# Altium schematic symbol library DELA EPROMMER II.SCHLIB: 21 symbols
Pins are listed as number, name and electrical type; pins without a type are passive.

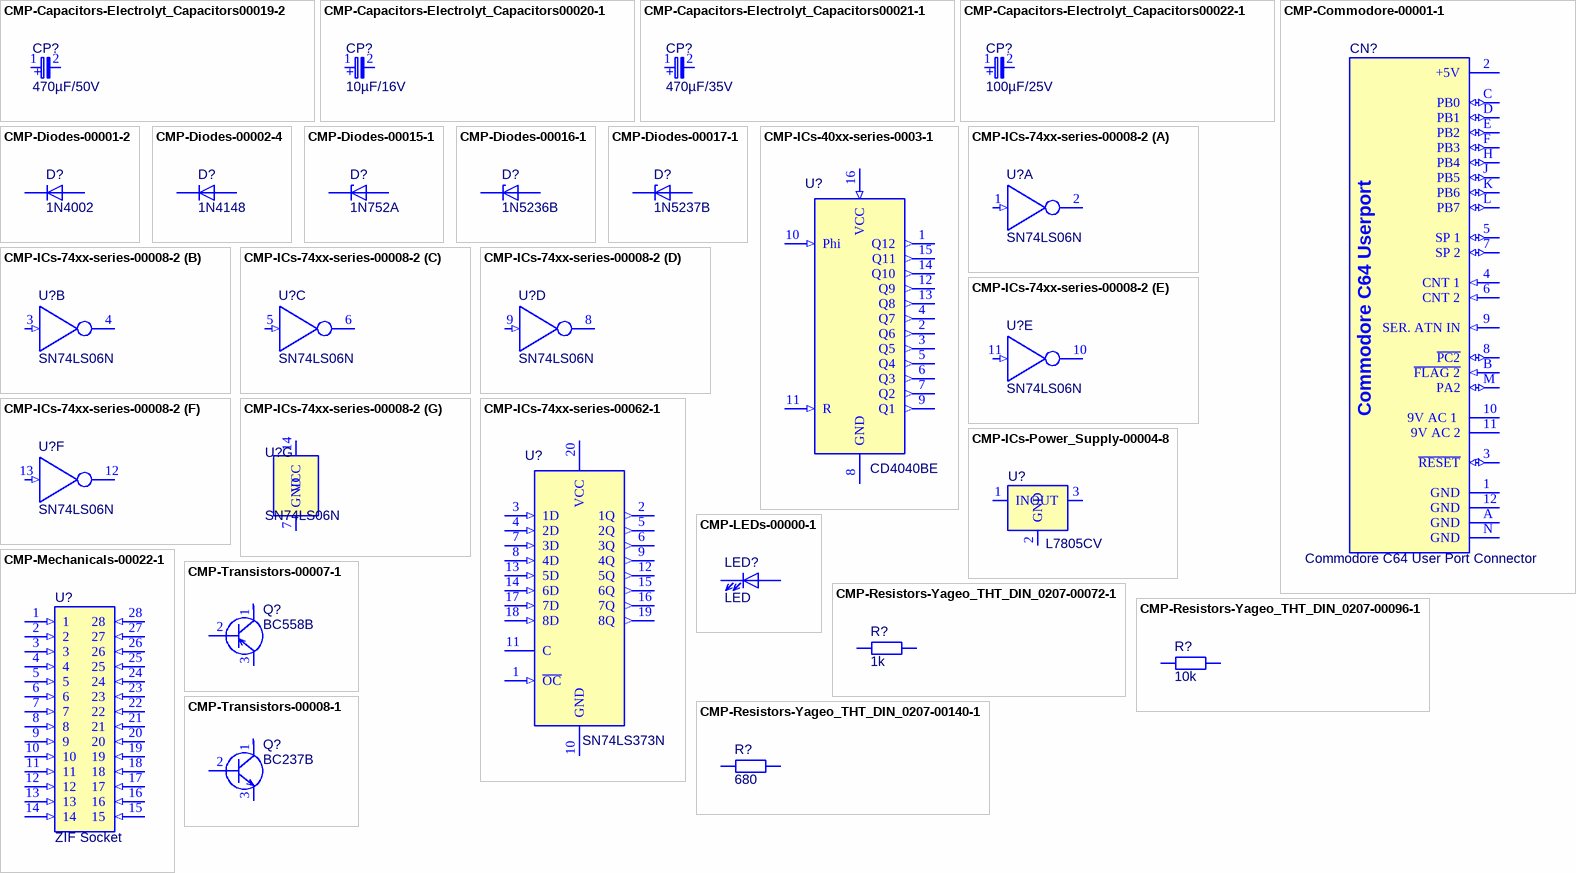
[diagram p0: symbols CMP-Capacitors-Electrolyt_Capacitors00019-2 to CMP-Transistors-00008-1]

## CMP-Capacitors-Electrolyt_Capacitors00019-2
designator CP?, comment 470µF/50V
Capacitor 470 uF 50 VDC, ECA1HHG471, Panasonic Automotive & Industrial Systems; Manufacturer Part Number: ECA-1HHG471; Lead/Base Style: Straight; Voltage: 50V; Dissipation Factor: 0.12%; Capacitance: 470uF; Ripple Current: 530mA; Lead Diameter: 0.6mm; Tolerance: 20%; Life (Hours): 2000Hour; Leakage Current: 3uA; Height - Seated (Max): 0.866inch; Number of Pins: 2; Package Quantity: 200; Voltage Rating (DC): 50V; Radiation Hardening: No; Max Operating Temperature: 105°C; Ripple Current (AC): 530mA; Lead Pitch: 5mm; Diameter: 10mm; REACH SVHC: No SVHC; Termination: Radial; Mount: Through Hole,PCB; Case/Package: Radial; Contact Plating: Tin; Length: 20mm; Min Operating Temperature: -55°C; Height: 20mm; Packaging: Bulk; Voltage Rating: 50V; Manufacturer: Panasonic; Component Type: Electrolyt Capacitors
footprint CAP Elec. 470µF 50V Panasonic ECA1HHG471 (Elko, radial, 470 µF, 50 V, RM 5,0, 1000h, 105°C, 20%)
pins: 1, 2
text: +

## CMP-Capacitors-Electrolyt_Capacitors00020-1
designator CP?, comment 10µF/16V
RND 150EHR100M16B - Kondensator, 10µF, 16V, 20%, RND Components; Manufacturer: RND Components; Manufacturer Part Number: RND 150EHR100M16B; Component Type: Electrolyt Capacitors
footprint CAP Elec 10µF 16V RND 150EHR100M16B (Elko, radial, 10 µF, 16 V, RM 2,0, 105°C, 2000h, 20%)
pins: 1, 2
text: +

## CMP-Capacitors-Electrolyt_Capacitors00021-1
designator CP?, comment 470µF/35V
ALUMINUM ELECTROLYTIC CAPACITOR, 470UF, 35V, 20%, RADIAL; Product Range:NHG Series; Capacitance:470 F; Capacitance Tolerance: 20%; Voltage Rating:35V; Diameter:10mm; Capacitor Terminals:Radial Leaded; Packaging:Each; ESR:- ;RoHS Compliant: Yes; Manufacturer: Panasonic; Manufacturer Part Number: ECA-1VHG471; Polarity: Polar; Leakage Current: 3uA; Ripple Current: 460mA; Dielectric Material: Aluminium; Life (Hours): 2000Hour; Lead/Base Style: Straight; Dissipation Factor: 0.14%; Lead Diameter: 0.6mm; Height: 16mm; Lead Free: Lead Free; Max Operating Temperature: 105°C; Voltage Rating (DC): 35V; Termination: Radial; Tolerance: 20%; Voltage: 35V; Voltage Rating: 35V; Case/Package: Radial; Length: 16mm; Contact Plating: Tin; Capacitance: 470uF; Min Operating Temperature: -55°C; REACH SVHC: No SVHC; Package Quantity: 200; Height - Seated (Max): 0.669inch; Number of Pins: 2; Diameter: 10mm; Lead Pitch: 5mm; Mount: Through Hole,PCB; Packaging: Bulk; Radiation Hardening: No; Component Type: Electrolyt Capacitors
footprint CAP Elec 470µF 35V Panasonic ECA1VHG471 (Elko, radial, 470 µF, 50 V, RM 5,0, 1000h, 105°C, 20%)
pins: 1, 2
text: +

## CMP-Capacitors-Electrolyt_Capacitors00022-1
designator CP?, comment 100µF/25V
Capacitor 100 uF 25 VDC, ECA1EHG101, Panasonic Automotive & Industrial Systems; Polarity: Polar; Voltage Rating (DC): 25V; Lead Diameter: 0.5mm; Dissipation Factor: 0.16%; Capacitance: 100uF; Ripple Current (AC): 130mA; Tolerance: 20%; Lead/Base Style: Straight; Life (Hours): 1000Hour; Leakage Current: 3uA; Height - Seated (Max): 0.48inch; Packaging: Bulk; Termination: Radial; Voltage Rating: 25V; Number of Pins: 2; Length: 11.2mm; Height: 11.2mm; Min Operating Temperature: -55°C; Diameter: 6.3mm; Lead Pitch: 2.5mm; Width: 0inch; Max Operating Temperature: 105°C; Case/Package: Radial; Mount: Through Hole,PCB; REACH SVHC: No SVHC; Package Quantity: 200; Voltage: 25V; Radiation Hardening: No; Ripple Current: 130mA; Manufacturer: Panasonic; Manufacturer Part Number: ECA1EHG101; Component Type: Electrolyt Capacitors
footprint CAP Elec 100µF 25V Panasonic ECA1EHG101 (Elko, radial, 100 µF, 25 V, RM 2,5, 1000h, 105°C, 20%)
pins: 1, 2
text: +

## CMP-Commodore-00001-1
designator CN?, comment Commodore C64 User Port Connector
Connector for soldering on the board, for connection to the user port of the C64.; Component Type: Commodore
footprint C64 User Port Connector
pins: 1 GND, 2 +5V (power), 3 ~{RESET} (io), 4 CNT 1 (in), 5 SP 1 (io), 6 CNT 2 (in), 7 SP 2 (io), 8 ~{PC2} (io), 9 SER. ATN IN (in), 10 9V AC 1  (power), 11 9V AC 2 (power), 12 GND, A GND, B ~{FLAG 2} (in), C PB0 (io), D PB1 (io), E PB2 (io), F PB3 (io), H PB4 (io), J PB5 (io), K PB6 (io), L PB7 (io), M PA2 (io), N GND
text: Commodore C64 Userport

## CMP-Diodes-00001-2
designator D?, comment 1N4002
DIODE GEN PURP 100V 1A DO41; Manufacturer: ON Semiconductor / Fairchild; Capacitance: 15pF; Forward Voltage: 1.1V; Polarity: Standard; Peak Reverse Current: 5uA; Max Forward Surge Current (Ifsm): 30A; Element Configuration: Single; Power Dissipation: 3W; Forward Current: 1A; Reverse Voltage: 100V; Mount: Through Hole; Diameter: 2.72mm; Height: 2.72mm; Max Operating Temperature: 175°C; Number of Pins: 2; Voltage Rating (DC): 100V; Contact Plating: Tin,Matte; Peak Non-Repetitive Surge Current: 30A; Width: 2.72mm; Package Quantity: 1000; Average Rectified Current: 1A; Max Repetitive Reverse Voltage (Vrrm): 100V; Max Surge Current: 30A; Weight: 0.245g; Min Operating Temperature: -55°C; Packaging: Tape and Reel; REACH SVHC: No SVHC; Termination: Axial; Radiation Hardening: No; Output Current: 1A; Current Rating: 1A; Length: 5.2mm; Lead Free: Lead Free; Max Reverse Voltage (DC): 100V; Manufacturer Part Number: 1N4002; Component Type: Diodes
footprint 1N4002 P=7.62mm
pins: 1, 2

## CMP-Diodes-00002-4
designator D?, comment 1N4148
NEXPERIA - 1N4148 - DIODE, 1N4148 AMMO-BOX 10K; Manufacturer: NXP Semiconductors; Reverse Recovery Time: 4ns; Capacitance: 4pF; Element Configuration: Single; Current: 4A; Output Current: 200mA; Voltage Rating (DC): 100V; Max Power Dissipation: 500mW; Polarity: Standard; Forward Voltage: 1V; Weight: 0.01lb; Lead Free: Lead Free; Length: 2.5inch; Termination: Axial; Voltage: 100V; Forward Current: 200mA; Width: 0.25inch; Packaging: Ammo Pack; Max Repetitive Reverse Voltage (Vrrm): 100V; Max Operating Temperature: 200°C; Number of Pins: 2; Case/Package: SOD; Max Forward Surge Current (Ifsm): 4A; Height: 0.25inch; Peak Non-Repetitive Surge Current: 4A; Radiation Hardening: No; REACH SVHC: No SVHC; Current Rating: 200mA; Min Operating Temperature: -65°C; Manufacturer Part Number: 1N4148; Component Type: Diodes
footprint 1N4148 P=5.08mm
pins: 1, 2

## CMP-Diodes-00015-1
designator D?, comment 1N752A
Zener Diode 5.6V 1/2 Watt 5% Do-35 Case; Manufacturer: NTE Electronics; Max Power Dissipation: 500mW; REACH SVHC: Unknown; Zener Voltage: 5.6V; Max Operating Temperature: 200°C; Number of Pins: 2; Manufacturer Part Number: 1N752A; Component Type: Diodes
footprint 1N752A P=5.08mm
pins: 1, 2

## CMP-Diodes-00016-1
designator D?, comment 1N5236B
FAIRCHILD SEMICONDUCTOR         1N5236B             Zener Single Diode, 7.5 V, 500 mW, DO-35, 5 %, 2 Pins, 200 C; Manufacturer: ON Semiconductor / Fairchild; Max Power Dissipation: 500mW; Peak Reverse Current: 3uA; Zener Voltage: 7.5V; Impedance: 6R; Test Current: 20mA; Voltage Tolerance: 5%; Forward Voltage: 1.2V; Mount: Through Hole; Voltage Rating (DC): 7.5V; Min Operating Temperature: -65°C; Weight: 0.01lb; Power Dissipation: 500mW; Width: 1.91mm; Element Configuration: Single; Lead Free: Lead Free; Zener Current: 20mA; Packaging: Bulk; Max Reverse Leakage Current: 3uA; Working Voltage: 7.5V; REACH SVHC: No SVHC; Power Rating: 500mW; Package Quantity: 1000; Tolerance: 5%; Number of Pins: 2; Height: 1.91mm; Radiation Hardening: No; Max Operating Temperature: 200°C; Length: 4.56mm; Manufacturer Part Number: 1N5236B; Component Type: Diodes
footprint 1N5236B  P=5.08mm
pins: 1, 2

## CMP-Diodes-00017-1
designator D?, comment 1N5237B
ZENER DIODE, 500mW, 8.2V, DO-35; Zener Voltage Vz Typ:8.2V; Power Dissipation Pd:500mW; Diode Case Style:DO-35; Zener Tolerance :5%; No. of Pins:2Pins; Operating Temperature Max:200 C; Packaging:Each; Breakdown Voltage:8.2V ;RoHS Compliant: Yes; Manufacturer: ON Semiconductor / Fairchild; Zener Current: 20mA; Voltage Tolerance: 5%; Peak Reverse Current: 3uA; Element Configuration: Single; Impedance: 8R; Forward Voltage: 1.2V; Height: 0.5inch; Lead Free: Lead Free; Max Operating Temperature: 200°C; Weight: 80g; Width: 0.5inch; Max Power Dissipation: 500mW; Packaging: Bulk; Tolerance: 5%; Package Quantity: 1000; Power Rating: 500mW; REACH SVHC: No SVHC; Working Voltage: 8.2V; Power Dissipation: 500mW; Min Operating Temperature: -65°C; Mount: Through Hole; Test Current: 20mA; Radiation Hardening: No; Max Reverse Leakage Current: 3uA; Voltage Rating (DC): 8.2V; Number of Pins: 2; Breakdown Voltage: 8.2V; Length: 0.5inch; Zener Voltage: 8.2V; Manufacturer Part Number: 1N5237B; Component Type: Diodes
footprint 1N5237B  P=5.08mm
pins: 1, 2

## CMP-ICs-40xx-series-0003-1
designator U?, comment CD4040BE
Counter/Divider Single 12-Bit Binary UP 16-Pin PDIP Tube; Manufacturer: Texas Instruments; Propagation Delay: 360ns; Input Capacitance: 5pF; Max Supply Voltage: 18V; Power Dissipation: 500mW; Number of Bits per Element: 12; Frequency: 24MHz; Min Supply Voltage: 3V; Clock Edge Trigger Type: Negative Edge; Number of Elements: 1; Quiescent Current: 100uA; Direction: Unidirectional; Reset: Asynchronous; Width: 6.35mm; Turn-On Delay Time: 360ns; Max Operating Temperature: 125°C; Weight: 0.03357oz; Packaging: Rail/Tube; REACH SVHC: No SVHC; Contact Plating: Gold; Mount: Through Hole; Radiation Hardening: No; Logic Function: Counter; Lead Free: Lead Free; Package Quantity: 25; Number of Pins: 16; Length: 19.3mm; Min Operating Temperature: -55°C; Height: 4.57mm; Case/Package: PDIP; Number of Bits: 12; Manufacturer Part Number: CD4040BE; Component Type: 4000-series
footprint CD4040BE with Socket (CMOS 12-Stage Ripple-Carry Binary Counter/Divider)
footprint CD4040BE (CMOS 12-Stage Ripple-Carry Binary Counter/Divider)
pins: 1 Q12 (out), 2 Q6 (out), 3 Q5 (out), 4 Q7 (out), 5 Q4 (out), 6 Q3 (out), 7 Q2 (out), 8 GND (power), 9 Q1 (out), 10 Phi (in), 11 R (in), 12 Q9 (out), 13 Q8 (out), 14 Q10 (out), 15 Q11 (out), 16 VCC (in)

## CMP-ICs-74xx-series-00008-2
designator U?, comment SN74LS06N
IC INVERTER OPEN COL 6CH 14DIP; Manufacturer: Texas Instruments; Turn-On Delay Time: 20ns; Operating Supply Voltage: 5V; Schmitt Trigger Input: No; Number of Circuits: 6; Number of Inputs: 1; Low Level Output Current: 40mA; Polarity: Inverting; High Level Output Current: -250uA; Max Supply Voltage: 5.25V; Logic Function: Buffer,Inverter,Inverting; Min Supply Voltage: 4.75V; Nominal Supply Current: 100uA; Max Operating Temperature: 70°C; Height: 4.57mm; Radiation Hardening: No; Mount: Through Hole; Number of Pins: 14; Min Operating Temperature: 0°C; Termination: Through Hole; Case/Package: PDIP; Number of Outputs: 6; Lead Free: Lead Free; Number of Elements: 6; Packaging: Rail/Tube; Number of Output Lines: 6; REACH SVHC: No SVHC; Length: 19.3mm; Number of Channels: 6; Propagation Delay: 20ns; Number of Gates: 6; Number of Bits: 6; Number of Input Lines: 6; Width: 6.35mm; Package Quantity: 25; Manufacturer Part Number: SN74LS06N; Component Type: 74xx-series
footprint SN74LS06N with Socket
footprint SN74LS06N
part A pins: 1 1A (in), 2 1Y (oc)
part B pins: 3 2A (in), 4 2Y (oc)
part C pins: 5 3A (in), 6 3Y (oc)
part D pins: 8 4Y (oc), 9 4A (in)
part E pins: 10 5Y (oc), 11 5A (in)
part F pins: 12 6Y (oc), 13 6A (in)
part G pins: 7 GND, 14 VCC (power)

## CMP-ICs-74xx-series-00062-1
designator U?, comment SN74LS373N
Latch Transparent 3-ST 8-CH D-Type 20-Pin PDIP Tube; Manufacturer: Texas Instruments; Max Supply Voltage: 5.25V; Number of Circuits: 8; Logic Function: D-Type,Latch,Flip-Flop; Low Level Output Current: 24mA; Number of Output Lines: 1; Propagation Delay: 18ns; Number of Input Lines: 3; Operating Supply Current: 40mA; Min Supply Voltage: 4.75V; Polarity: Non-Inverting; Operating Supply Voltage: 5V; Turn-On Delay Time: 12ns; High Level Output Current: -2.6mA; Weight: 0.042297oz; Number of Bits: 8; Max Operating Temperature: 70°C; Package Quantity: 20; Number of Outputs: 8; Case/Package: PDIP; Quiescent Current: 24mA; Min Operating Temperature: 0°C; Width: 6.35mm; Contact Plating: Gold; Lead Free: Lead Free; Number of Elements: 1; Mount: Through Hole; Number of Channels: 8; Height: 4.57mm; REACH SVHC: No SVHC; Number of Pins: 20; Packaging: Rail/Tube; Output Current: 24mA; Radiation Hardening: No; Independent Circuits: 1; Length: 24.33mm; Manufacturer Part Number: SN74LS373N; Component Type: 74xx-series
footprint SN74LS373N with Socket (OCTAL D-TYPE TRANSPARENT LATCHES AND EDGE-TRIGGERED FLIP-FLOPS)
footprint SN74LS373N (OCTAL D-TYPE TRANSPARENT LATCHES AND EDGE-TRIGGERED FLIP-FLOPS)
pins: 1 ~{OC} (in), 2 1Q (out), 3 1D (in), 4 2D (in), 5 2Q (out), 6 3Q (out), 7 3D (in), 8 4D (in), 9 4Q (out), 10 GND (power), 11 C, 12 5Q (out), 13 5D (in), 14 6D (in), 15 6Q (out), 16 7Q (out), 17 7D (in), 18 8D (in), 19 8Q (out), 20 VCC (power)

## CMP-ICs-Power_Supply-00004-8
designator U?, comment L7805CV
STMICROELECTRONICS - L7806CV - LINEAR VOLTAGE REGULATOR 6V TO-220-3; Dropout Voltage: 2V; Quiescent Current: 8mA; Max Input Voltage: 35V; Power Supply Rejection Ratio (PSRR): 59dB; Number of Outputs: 1; Min Input Voltage: 8V; Tolerance: 5%; Output Current: 1.5A; Output Type: Fixed; Polarity: Positive; Lead Free: Lead Free; Min Operating Temperature: 0°C; Nominal Output Voltage: 6V; Min Output Voltage: 6V; Length: 10.4mm; Number of Pins: 3; Output Voltage: 6V; Mount: Through Hole; Height: 9.15mm; Width: 4.6mm; Package Quantity: 50; Contact Plating: Tin,Matte; Radiation Hardening: No; Case/Package: TO; Max Operating Temperature: 125°C; REACH SVHC: No SVHC; Max Output Current: 1.5A; Packaging: Rail/Tube; Number of Regulators: 1; Weight: 0.08113oz; Manufacturer: STMicroelectronics; Manufacturer Part Number: L7806CV; Component Type: Power Supplies
footprint L 7805 CV (Linear Voltage Regulator IC  1 Output  1.5A TO-220AB)
footprint L 7805 CV Right Angle (Linear Voltage Regulator IC  1 Output  1.5A TO-220AB)
pins: 1 IN (power), 2 GND, 3 OUT (power), 4 N/C (power) hidden

## CMP-LEDs-00000-1
designator LED?, comment LED
WURTH ELEKTRONIK   151033RS03000   LED, 3MM,  RED, 2600MCD, 621NM; Manufacturer: Wurth Electronics; Viewing Angle: 30°; Test Current: 20mA; Forward Current: 30mA; Lens Style: Clear,Circular,Round; Forward Voltage: 2V; Packaging: Bulk; Height: 5.55mm; Color: Red; Wavelength: 621nm; Max Operating Temperature: 85°C; Luminous Intensity: 2600mcd; Dominant Wavelength: 621nm; REACH SVHC: Unknown; Mount: Through Hole; Lens Size: 3mm; Package Quantity: 1; Case/Package: Radial; Min Operating Temperature: -40°C; Manufacturer Part Number: 151033RS03000; Component Type: LEDs
footprint LED 3mm Red Straight
pins: 1, 2

## CMP-Mechanicals-00022-1
designator U?, comment ZIF Socket
CONN IC DIP SOCKET ZIF 28POS GLD; Manufacturer: 3M; Manufacturer Part Number: 228-4817-00-0602J; Row Spacing: 0.4inch; Number of Positions: 28; Gender: Female; Pitch: 2.54mm; Voltage Rating: 1kV; Current Rating: 1A; Body Material: Glass,Polysulfone; Termination: Through Hole; Depth: 11.9mm; Contact Material: Copper; Package Quantity: 10; Mount: Through Hole; Flammability Rating: UL94 V-0; Number of Contacts: 28; Housing Material: Polysulfone; Max Operating Temperature: 150°C; Packaging: Rail/Tube; Min Operating Temperature: -55°C; Lead Free: Lead Free; Width: 17.8mm; Length: 50.5mm; Contact Plating: Gold; Orientation: Straight; Component Type: Mechanicals
footprint ZIF Socket Textool 28pos P=15.24mm
pins: 1 (in), 2 (in), 3 (in), 4 (in), 5 (in), 6 (in), 7 (in), 8 (in), 9 (in), 10 (in), 11 (in), 12 (in), 13 (in), 14 (in), 15 (in), 16 (in), 17 (in), 18 (in), 19 (in), 20 (in), 21 (in), 22 (in), 23 (in), 24 (in), 25 (in), 26 (in), 27 (in), 28 (in)

## CMP-Resistors-Yageo_THT_DIN_0207-00072-1
designator R?, comment 1k
RES 1K OHM 1/4W 5% AXIAL; Manufacturer: Yageo; Manufacturer Part Number: CFR-25JB-52-1K; Max Power Dissipation: 250mW; Resistance: 1kR; Temperature Coefficient: 500ppm/°C; Composition: Carbon Film; Lead Free: Lead Free; Case/Package: Axial; Packaging: Bulk; Length: 0.248inch; Min Operating Temperature: -55°C; Tolerance: 5%; Number of Terminations: 2; Package Quantity: 200; Max Operating Temperature: 155°C; Power Rating: 250mW; Component Type: Yageo THT DIN 0207
footprint 1,0 kOhm R Axial DIN0207 L6.3mm D2.5mm P7.62mm Horizontal
footprint 1,0 kOhm R Axial DIN0207 L6.3mm D2.5mm P10.16mm Horizontal
footprint 1,0 kOhm R Axial DIN0207 L6.3mm D2.5mm P15.24mm Horizontal
footprint 1,0 kOhm R Axial DIN0207 L6.3mm D2.5mm P2.54mm Vertical
footprint 1,0 kOhm R Axial DIN0207 L6.3mm D2.5mm P5.08mm Vertical
pins: 1, 2

## CMP-Resistors-Yageo_THT_DIN_0207-00096-1
designator R?, comment 10k
RES 10K OHM 1/4W 5% AXIAL; Manufacturer: Yageo; Manufacturer Part Number: CFR-25JB-52-10K; Resistance: 10kR; Temperature Coefficient: 500ppm/°C; Max Power Dissipation: 250mW; Case/Package: Axial; Number of Terminations: 2; Composition: Carbon Film; Packaging: Bulk; Min Operating Temperature: -55°C; Lead Free: Lead Free; Package Quantity: 200; Max Operating Temperature: 155°C; Length: 0.248inch; Tolerance: 5%; Component Type: Yageo THT DIN 0207
footprint 10 kOhm R Axial DIN0207 L6.3mm D2.5mm P7.62mm Horizontal
footprint 10 kOhm R Axial DIN0207 L6.3mm D2.5mm P10.16mm Horizontal
footprint 10 kOhm R Axial DIN0207 L6.3mm D2.5mm P15.24mm Horizontal
footprint 10 kOhm R Axial DIN0207 L6.3mm D2.5mm P2.54mm Vertical
footprint 10 kOhm R Axial DIN0207 L6.3mm D2.5mm P5.08mm Vertical
pins: 1, 2

## CMP-Resistors-Yageo_THT_DIN_0207-00140-1
designator R?, comment 680
Res 680K Ohm 1/4W 5% Axial; Manufacturer: Yageo; Manufacturer Part Number: CFR-25JB-52-680K; Resistance: 680kR; Max Power Dissipation: 250mW; Temperature Coefficient: -700ppm/°C; Package Quantity: 200; Composition: Carbon Film; Max Operating Temperature: 155°C; Packaging: Bulk; Number of Terminations: 2; Min Operating Temperature: -55°C; Length: 0.248inch; Case/Package: Axial; Tolerance: 5%; Component Type: Yageo THT DIN 0207
footprint 680 kOhm R Axial DIN0207 L6.3mm D2.5mm P7.62mm Horizontal
footprint 680 kOhm R Axial DIN0207 L6.3mm D2.5mm P10.16mm Horizontal
footprint 680 kOhm R Axial DIN0207 L6.3mm D2.5mm P15.24mm Horizontal
footprint 680 kOhm R Axial DIN0207 L6.3mm D2.5mm P2.54mm Vertical
footprint 680 kOhm R Axial DIN0207 L6.3mm D2.5mm P5.08mm Vertical
pins: 1, 2

## CMP-Transistors-00007-1
designator Q?, comment BC558B
FAIRCHILD SEMICONDUCTOR         BC558BTA             Bipolar (BJT) Single Transistor, PNP, -30 V, 150 MHz, 500 mW, -100 mA, 200 hFE; Manufacturer: ON Semiconductor / Fairchild; Max Collector Current: 100mA; Collector Emitter Saturation Voltage: -250mV; Power Dissipation: 500mW; Transition Frequency: 150MHz; Collector Emitter Breakdown Voltage: 30V; Max Frequency: 10MHz; Emitter Base Voltage (VEBO): -5V; Collector Base Voltage (VCBO): -30V; Number of Elements: 1; Current Rating: -100mA; hFE Min: 110; Contact Plating: Tin,Matte; Weight: 0.24g; Case/Package: TO-92; Lead Free: Lead Free; Max Operating Temperature: 150°C; Collector Emitter Voltage (VCEO): 30V; Gain Bandwidth Product: 150MHz; Packaging: Ammo Pack; Height: 5.33mm; REACH SVHC: No SVHC; Voltage Rating (DC): -30V; Length: 5.2mm; Frequency: 150MHz; Mount: Through Hole; Package Quantity: 2000; Element Configuration: Single; Max Breakdown Voltage: 30V; Number of Pins: 3; Min Operating Temperature: -65°C; Polarity: PNP; Width: 4.19mm; Max Power Dissipation: 500mW; Manufacturer Part Number: BC558BTA; Component Type: Transistors
footprint BC558B (Amplifier Transistor PNP Silicon)
pins: 1, 2, 3

## CMP-Transistors-00008-1
designator Q?, comment BC237B
MULTICOMP         BC237B            Bipolar (BJT) Single Transistor, NPN, 45 V, 200 MHz, 350 mW, 100 mA, 290; Collector Emitter Voltage (VCEO): 45V; Transition Frequency: 200MHz; Max Power Dissipation: 350mW; Polarity: NPN; Number of Pins: 3; Case/Package: TO-92; Max Operating Temperature: 150°C; Collector Emitter Breakdown Voltage: 45V; Power Dissipation: 350mW; REACH SVHC: No SVHC; Manufacturer: Multicomp; Manufacturer Part Number: BC237B; Component Type: Transistors
footprint BC237 (Amplifier Transistor NPN Silicon)
pins: 1, 2, 3